# Altium integrated library RT9193.IntLib: 1 symbol
Pins are listed as number, name and electrical type; pins without a type are passive.

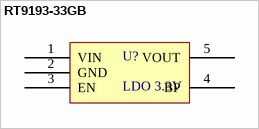
[diagram p0: symbol RT9193-33GB]

## RT9193-33GB
designator U?, comment LDO 3.3V
300mA Fixed 3.3V SOT-23-5 Linear Voltage Regulators (LDO) ROHS
footprint SOT-23-5
pins: 1 VIN, 2 GND, 3 EN, 4 BP, 5 VOUT